# Altium schematic symbol library GH1.25.SchLib: 12 symbols
Pins are listed as number, name and electrical type; pins without a type are passive.

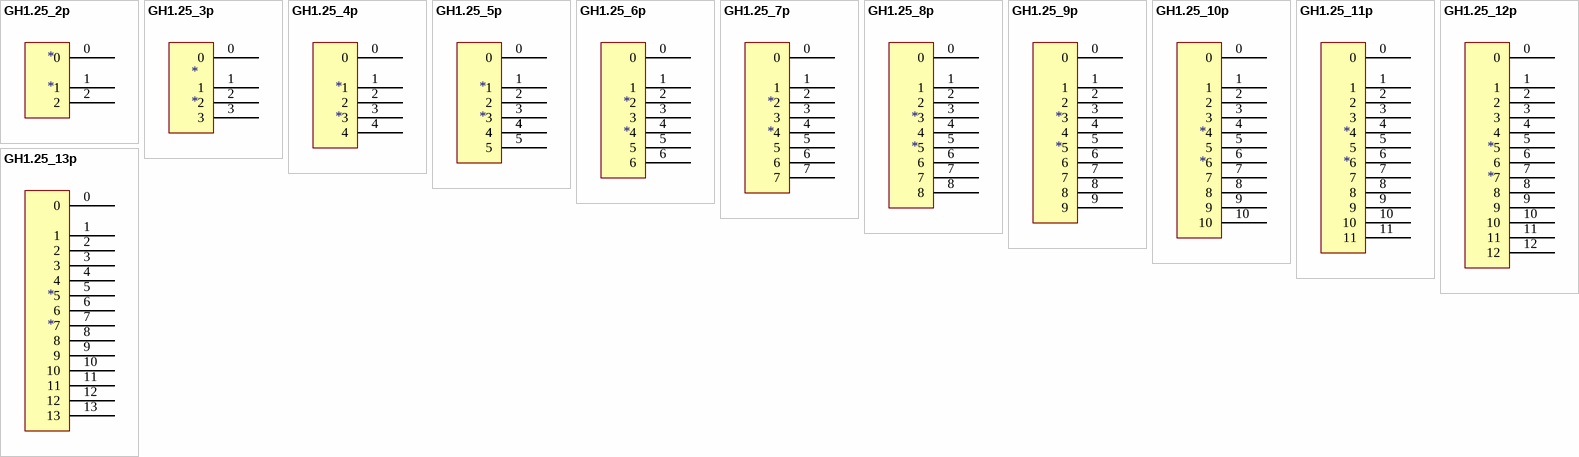
[diagram p0: symbols GH1.25_2p to GH1.25_13p]

## GH1.25_2p
designator *
footprint GH1.25-LS-2P
footprint GH1.25-WS-2P
pins: 0, 1, 2

## GH1.25_3p
designator *
footprint GH1.25-LS-3P (A1257WR-S-3P)
footprint GH1.25-WS-3P (A1257WR-S-3P)
pins: 0, 1, 2, 3

## GH1.25_4p
designator *
footprint GH1.25-LS-4P (A1257WR-S-4P)
footprint GH1.25-WS-4P (A1257WR-S-4P)
pins: 0, 1, 2, 3, 4

## GH1.25_5p
designator *
pins: 0, 1, 2, 3, 4, 4, 5

## GH1.25_6p
designator *
footprint GH1.25-LS-6P (A1257WR-S-6P)
footprint GH1.25-WS-6P (A1257WR-S-6P)
pins: 0, 1, 2, 3, 4, 5, 6

## GH1.25_7p
designator *
footprint GH1.25-LS-7P (A1257WR-S-7P)
footprint GH1.25-WS-7P (A1257WR-S-7P)
pins: 0, 1, 2, 3, 4, 5, 6, 7

## GH1.25_8p
designator *
footprint GH1.25-WS-8P (A1257WR-S-8P)
footprint GH1.25-LS-8P (A1257WR-S-8P)
pins: 0, 1, 2, 3, 4, 5, 6, 7, 8

## GH1.25_9p
designator *
footprint GH1.25-LS-9P (A1257WR-S-9P)
footprint GH1.25-WS-9P (A1257WR-S-9P)
pins: 0, 1, 2, 3, 4, 5, 6, 7, 8, 9

## GH1.25_10p
designator *
footprint GH1.25-LS-10P (A1257WR-S-10P)
footprint GH1.25-WS-10P (A1257WR-S-10P)
pins: 0, 1, 2, 3, 4, 5, 6, 7, 8, 9, 10

## GH1.25_11p
designator *
footprint GH1.25-LS-11P (A1257WR-S-11P)
footprint GH1.25-WS-11P (A1257WR-S-11P)
pins: 0, 1, 2, 3, 4, 5, 6, 7, 8, 9, 10, 11

## GH1.25_12p
designator *
footprint GH1.25-LS-12P (A1257WR-S-12P)
footprint GH1.25-WS-12P (A1257WR-S-12P)
pins: 0, 1, 2, 3, 4, 5, 6, 7, 8, 9, 10, 11, 12

## GH1.25_13p
designator *
footprint GH1.25-LS-13P (A1257WR-S-13P)
footprint GH1.25-WS-13P (A1257WR-S-13P)
pins: 0, 1, 2, 3, 4, 5, 6, 7, 8, 9, 10, 11, 12, 13